# Altium integrated library WE_WR-WTB_Wire-to-Board Connectors_3.96 mm_rev15a.IntLib: 13 symbols
Pins are listed as number, name and electrical type; pins without a type are passive.

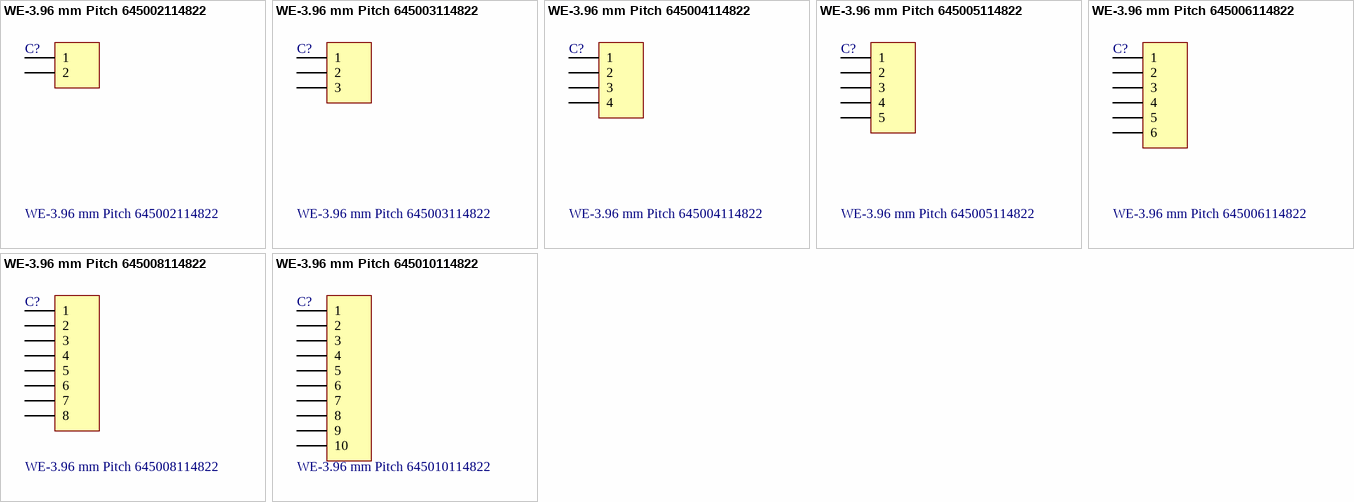
[diagram p0: symbols WE-3.96 mm Pitch 645002114822 to WE-3.96 mm Pitch 645010114822]

## WE-3.96 mm Pitch 645002114822
designator C?
WR-WTB 3.96mm Male Locking Header; Manufacturer: Würth Elektronik eiSos GmbH; ComponentLink1 Description: Manufacturer; ComponentLink2 Description: Datasheet; NoPins: 2; Created Date: 16 May 2013; partNo: 645002114822; ComponentLink1URL: http://www.we-online.com; ComponentLink2URL: http://katalog.we-online.de/em/datasheet/6450xx114822.pdf; Created by: Karrer Zheng
footprint 645002114822 (2 pins, straight)
pins: 1, 2

## WE-3.96 mm Pitch 645003114822
designator C?
WR-WTB 3.96mm Male Locking Header; Manufacturer: Würth Elektronik eiSos GmbH; ComponentLink1 Description: Manufacturer; ComponentLink2 Description: Datasheet; NoPins: 3; Created Date: 16 May 2013; partNo: 645003114822; ComponentLink1URL: http://www.we-online.com; ComponentLink2URL: http://katalog.we-online.de/em/datasheet/6450xx114822.pdf; Created by: Karrer Zheng
footprint 645003114822 (3 pins, straight)
pins: 1, 2, 3

## WE-3.96 mm Pitch 645004114822
designator C?
WR-WTB 3.96mm Male Locking Header; Manufacturer: Würth Elektronik eiSos GmbH; ComponentLink1 Description: Manufacturer; ComponentLink2 Description: Datasheet; NoPins: 4; Created Date: 16 May 2013; partNo: 645004114822; ComponentLink1URL: http://www.we-online.com; ComponentLink2URL: http://katalog.we-online.de/em/datasheet/6450xx114822.pdf; Created by: Karrer Zheng
footprint 645004114822 (4 pins, straight)
pins: 1, 2, 3, 4

## WE-3.96 mm Pitch 645005114822
designator C?
WR-WTB 3.96mm Male Locking Header; Manufacturer: Würth Elektronik eiSos GmbH; ComponentLink1 Description: Manufacturer; ComponentLink2 Description: Datasheet; NoPins: 5; Created Date: 16 May 2013; partNo: 645005114822; ComponentLink1URL: http://www.we-online.com; ComponentLink2URL: http://katalog.we-online.de/em/datasheet/6450xx114822.pdf; Created by: Karrer Zheng
footprint 645005114822 (5 pins, straight)
pins: 1, 2, 3, 4, 5

## WE-3.96 mm Pitch 645006114822
designator C?
WR-WTB 3.96mm Male Locking Header; Manufacturer: Würth Elektronik eiSos GmbH; ComponentLink1 Description: Manufacturer; ComponentLink2 Description: Datasheet; NoPins: 6; Created Date: 16 May 2013; partNo: 645006114822; ComponentLink1URL: http://www.we-online.com; ComponentLink2URL: http://katalog.we-online.de/em/datasheet/6450xx114822.pdf; Created by: Karrer Zheng
footprint 645006114822 (6 pins, straight)
pins: 1, 2, 3, 4, 5, 6

## WE-3.96 mm Pitch 645008114822
designator C?
WR-WTB 3.96mm Male Locking Header; Manufacturer: Würth Elektronik eiSos GmbH; ComponentLink1 Description: Manufacturer; ComponentLink2 Description: Datasheet; NoPins: 8; Created Date: 16 May 2013; partNo: 645008114822; ComponentLink1URL: http://www.we-online.com; ComponentLink2URL: http://katalog.we-online.de/em/datasheet/6450xx114822.pdf; Created by: Karrer Zheng
footprint 645008114822 (8 pins, straight)
pins: 1, 2, 3, 4, 5, 6, 7, 8

## WE-3.96 mm Pitch 645010114822
designator C?
WR-WTB 3.96mm Male Locking Header; Manufacturer: Würth Elektronik eiSos GmbH; ComponentLink1 Description: Manufacturer; ComponentLink2 Description: Datasheet; NoPins: 10; Created Date: 16 May 2013; partNo: 645010114822; ComponentLink1URL: http://www.we-online.com; ComponentLink2URL: http://katalog.we-online.de/em/datasheet/6450xx114822.pdf; Created by: Karrer Zheng
footprint 645010114822 (10 pins, straight)
pins: 1, 2, 3, 4, 5, 6, 7, 8, 9, 10


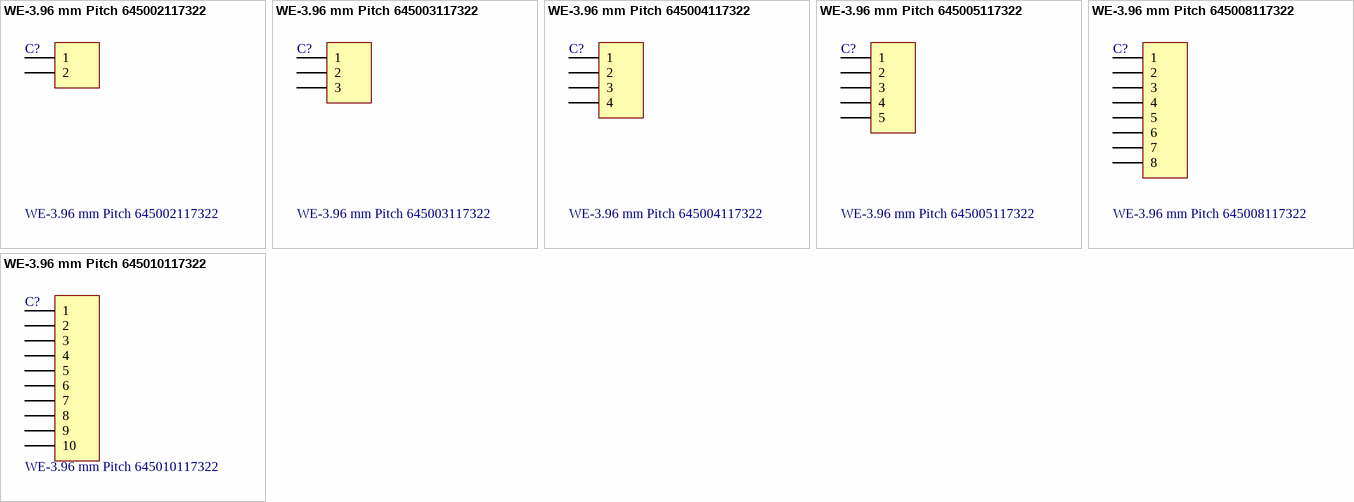
[diagram p1: symbols WE-3.96 mm Pitch 645002117322 to WE-3.96 mm Pitch 645010117322]

## WE-3.96 mm Pitch 645002117322
designator C?
WR-WTB 3.96mm Male Right Angeled Locking Header; Manufacturer: Würth Elektronik eiSos GmbH; ComponentLink1 Description: Manufacturer; ComponentLink2 Description: Datasheet; NoPins: 2; Created Date: 16 May 2013; partNo: 645002117322; ComponentLink1URL: http://www.we-online.com; ComponentLink2URL: http://katalog.we-online.de/em/datasheet/6450xx117322.pdf; Created by: Karrer Zheng
footprint 645002117322 (2 pins, straight)
pins: 1, 2

## WE-3.96 mm Pitch 645003117322
designator C?
WR-WTB 3.96mm Male Right Angeled Locking Header; Manufacturer: Würth Elektronik eiSos GmbH; ComponentLink1 Description: Manufacturer; ComponentLink2 Description: Datasheet; NoPins: 3; Created Date: 16 May 2013; partNo: 645003117322; ComponentLink1URL: http://www.we-online.com; ComponentLink2URL: http://katalog.we-online.de/em/datasheet/6450xx117322.pdf; Created by: Karrer Zheng
footprint 645003117322 (3 pins, straight)
pins: 1, 2, 3

## WE-3.96 mm Pitch 645004117322
designator C?
WR-WTB 3.96mm Male Right Angeled Locking Header; Manufacturer: Würth Elektronik eiSos GmbH; ComponentLink1 Description: Manufacturer; ComponentLink2 Description: Datasheet; NoPins: 4; Created Date: 16 May 2013; partNo: 645004117322; ComponentLink1URL: http://www.we-online.com; ComponentLink2URL: http://katalog.we-online.de/em/datasheet/6450xx117322.pdf; Created by: Karrer Zheng
footprint 645004117322 (4 pins, straight)
pins: 1, 2, 3, 4

## WE-3.96 mm Pitch 645005117322
designator C?
WR-WTB 3.96mm Male Right Angeled Locking Header; Manufacturer: Würth Elektronik eiSos GmbH; ComponentLink1 Description: Manufacturer; ComponentLink2 Description: Datasheet; NoPins: 5; Created Date: 16 May 2013; partNo: 645005117322; ComponentLink1URL: http://www.we-online.com; ComponentLink2URL: http://katalog.we-online.de/em/datasheet/6450xx117322.pdf; Created by: Karrer Zheng
footprint 645005117322 (5 pins, straight)
pins: 1, 2, 3, 4, 5

## WE-3.96 mm Pitch 645008117322
designator C?
WR-WTB 3.96mm Male Right Angeled Locking Header; Manufacturer: Würth Elektronik eiSos GmbH; ComponentLink1 Description: Manufacturer; ComponentLink2 Description: Datasheet; NoPins: 8; Created Date: 16 May 2013; partNo: 645008117322; ComponentLink1URL: http://www.we-online.com; ComponentLink2URL: http://katalog.we-online.de/em/datasheet/6450xx117322.pdf; Created by: Karrer Zheng
footprint 645008117322 (8 pins, straight)
pins: 1, 2, 3, 4, 5, 6, 7, 8

## WE-3.96 mm Pitch 645010117322
designator C?
WR-WTB 3.96mm Male Right Angeled Locking Header; Manufacturer: Würth Elektronik eiSos GmbH; ComponentLink1 Description: Manufacturer; ComponentLink2 Description: Datasheet; NoPins: 10; Created Date: 16 May 2013; partNo: 645010117322; ComponentLink1URL: http://www.we-online.com; ComponentLink2URL: http://katalog.we-online.de/em/datasheet/6450xx117322.pdf; Created by: Karrer Zheng
footprint 645010117322 (10 pins, straight)
pins: 1, 2, 3, 4, 5, 6, 7, 8, 9, 10